# EAGLE library part OPENAG-CONNECTORS_BBB_SMD (library PFCEDU_V3)
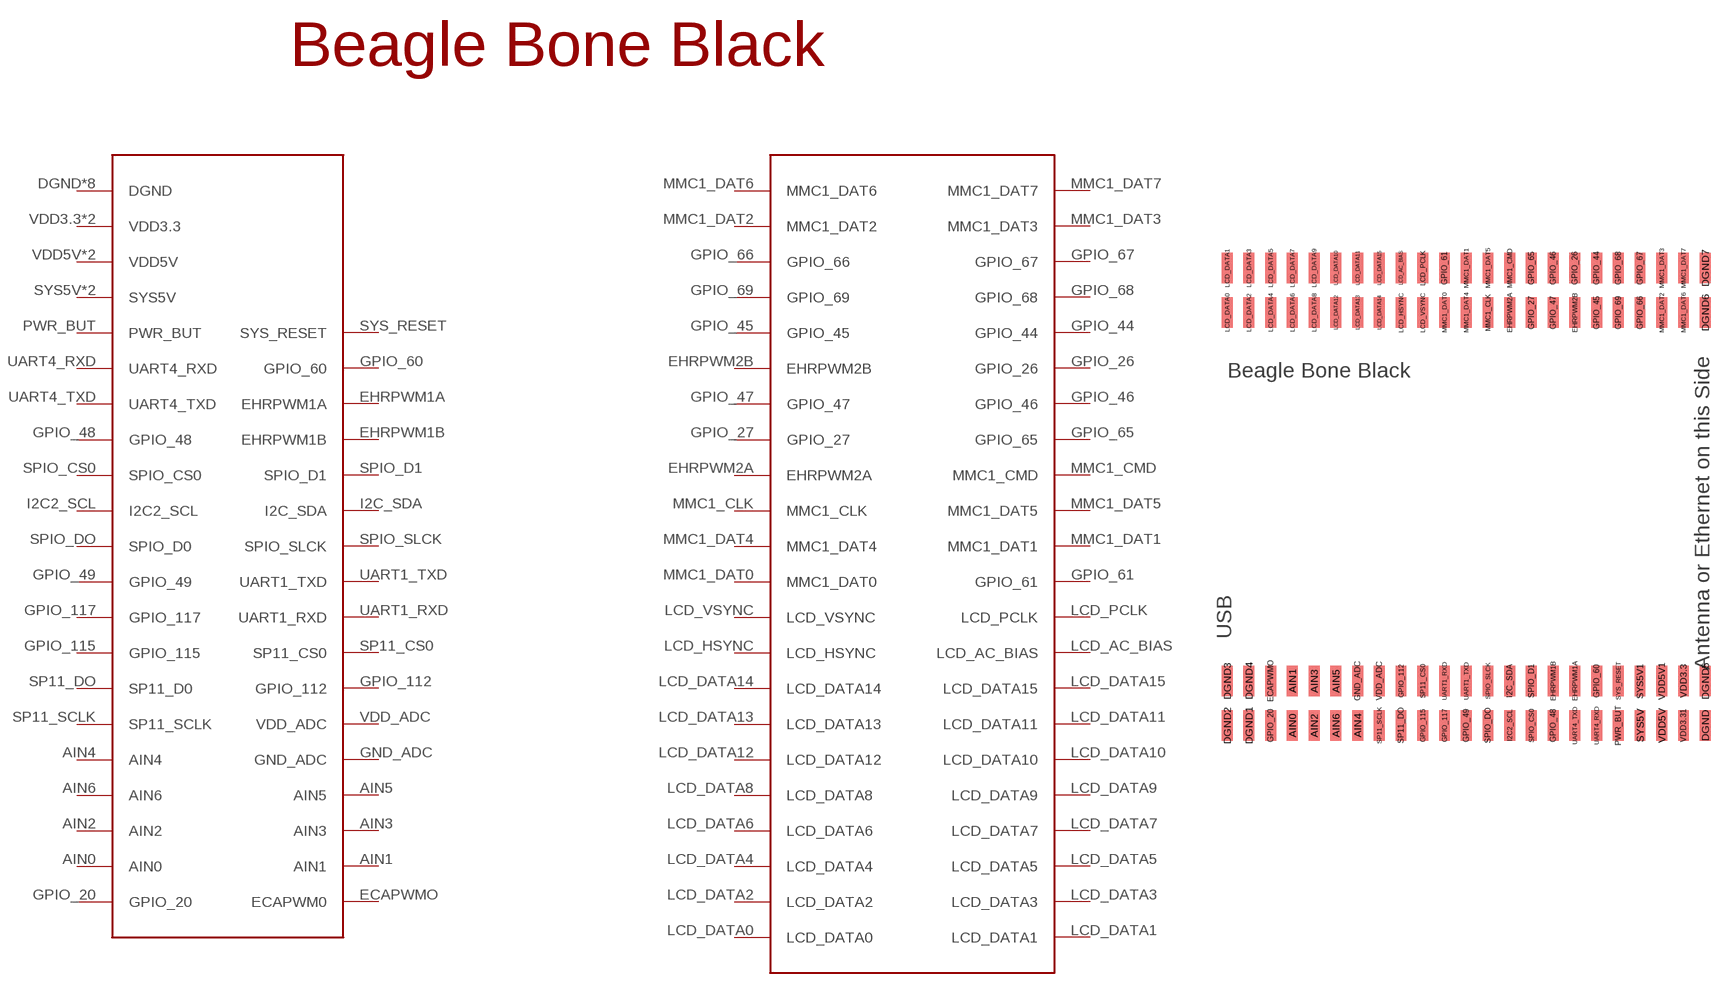
[diagram p3: symbol with the pads of OPENAG-CONNECTORS_23PINHEADERSMD; footprint OPENAG-CONNECTORS_23PINHEADERSMD]

Designator prefix -

## OPENAG-CONNECTORS_BBB_SMD  [OPENAG-CONNECTORS_23PINHEADERSMD]
AIN0  AIN0
AIN1  AIN1
AIN2  AIN2
AIN3  AIN3
AIN4  AIN4
AIN5  AIN5
AIN6  AIN6
DGND  DGND
DGND1  DGND
DGND2  DGND
DGND3  DGND
DGND4  DGND
DGND5  DGND
DGND6  DGND
DGND7  DGND
ECAPWMO  ECAPWM0
EHRPWM1A  EHRPWM1A
EHRPWM1B  EHRPWM1B
EHRPWM2A  EHRPWM2A
EHRPWM2B  EHRPWM2B
GND_ADC  GND_ADC
GPIO_20  GPIO_20
GPIO_26  GPIO_26
GPIO_27  GPIO_27
GPIO_44  GPIO_44
GPIO_45  GPIO_45
GPIO_46  GPIO_46
GPIO_47  GPIO_47
GPIO_48  GPIO_48
GPIO_49  GPIO_49
GPIO_60  GPIO_60
GPIO_61  GPIO_61
GPIO_65  GPIO_65
GPIO_66  GPIO_66
GPIO_67  GPIO_67
GPIO_68  GPIO_68
GPIO_69  GPIO_69
GPIO_112  GPIO_112
GPIO_115  GPIO_115
GPIO_117  GPIO_117
I2C2_SCL  I2C2_SCL
I2C_SDA  I2C_SDA
LCD_AC_BIAS  LCD_AC_BIAS
LCD_DATA0  LCD_DATA0
LCD_DATA1  LCD_DATA1
LCD_DATA2  LCD_DATA2
LCD_DATA3  LCD_DATA3
LCD_DATA4  LCD_DATA4
LCD_DATA5  LCD_DATA5
LCD_DATA6  LCD_DATA6
LCD_DATA7  LCD_DATA7
LCD_DATA8  LCD_DATA8
LCD_DATA9  LCD_DATA9
LCD_DATA10  LCD_DATA10
LCD_DATA11  LCD_DATA11
LCD_DATA12  LCD_DATA12
LCD_DATA13  LCD_DATA13
LCD_DATA14  LCD_DATA14
LCD_DATA15  LCD_DATA15
LCD_HSYNC  LCD_HSYNC
LCD_PCLK  LCD_PCLK
LCD_VSYNC  LCD_VSYNC
MMC1_CLK  MMC1_CLK
MMC1_CMD  MMC1_CMD
MMC1_DAT0  MMC1_DAT0
MMC1_DAT1  MMC1_DAT1
MMC1_DAT2  MMC1_DAT2
MMC1_DAT3  MMC1_DAT3
MMC1_DAT4  MMC1_DAT4
MMC1_DAT5  MMC1_DAT5
MMC1_DAT6  MMC1_DAT6
MMC1_DAT7  MMC1_DAT7
PWR_BUT  PWR_BUT
SP11_CS0  SP11_CS0
SP11_DO  SP11_D0
SP11_SCLK  SP11_SCLK
SPIO_CS0  SPIO_CS0
SPIO_D1  SPIO_D1
SPIO_DO  SPIO_D0
SPIO_SLCK  SPIO_SLCK
SYS5V  SYS5V
SYS5V1  SYS5V
SYS_RESET  SYS_RESET
UART1_RXD  UART1_RXD
UART1_TXD  UART1_TXD
UART4_RXD  UART4_RXD
UART4_TXD  UART4_TXD
VDD3.3  VDD3.3
VDD3.31  VDD3.3
VDD5V  VDD5V
VDD5V1  VDD5V
VDD_ADC  VDD_ADC

## Footprint OPENAG-CONNECTORS_23PINHEADERSMD (pad centres in mm)
smd 1.27 x 3.556: AIN0 7.62,0; AIN1 7.62,5.207; AIN2 10.16,0; AIN3 10.16,5.207; AIN4 15.24,0; AIN5 12.7,5.207; AIN6 12.7,0; DGND 55.88,0; DGND1 2.54,0; DGND2 0,0; DGND3 0,5.207; DGND4 2.54,5.207; DGND5 55.88,5.207; DGND6 55.88,48.26; DGND7 55.88,53.467; ECAPWMO 5.08,5.207; EHRPWM1A 40.64,5.207; EHRPWM1B 38.1,5.207; EHRPWM2A 33.02,48.26; EHRPWM2B 40.64,48.26; GND_ADC 15.24,5.207; GPIO_20 5.08,0; GPIO_26 40.64,53.467; GPIO_27 35.56,48.26; GPIO_44 43.18,53.467; GPIO_45 43.18,48.26; GPIO_46 38.1,53.467; GPIO_47 38.1,48.26; GPIO_48 38.1,0; GPIO_49 27.94,0; GPIO_60 43.18,5.207; GPIO_61 25.4,53.467; GPIO_65 35.56,53.467; GPIO_66 48.26,48.26; GPIO_67 48.26,53.467; GPIO_68 45.72,53.467; GPIO_69 45.72,48.26; GPIO_112 20.32,5.207; GPIO_115 22.86,0; GPIO_117 25.4,0; I2C2_SCL 33.02,0; I2C_SDA 33.02,5.207; LCD_AC_BIAS 20.32,53.467; LCD_DATA0 0,48.26; LCD_DATA1 0,53.467; LCD_DATA2 2.54,48.26; LCD_DATA3 2.54,53.467; LCD_DATA4 5.08,48.26; LCD_DATA5 5.08,53.467; LCD_DATA6 7.62,48.26; LCD_DATA7 7.62,53.467; LCD_DATA8 10.16,48.26; LCD_DATA9 10.16,53.467; LCD_DATA10 12.7,53.467; LCD_DATA11 15.24,53.467; LCD_DATA12 12.7,48.26; LCD_DATA13 15.24,48.26; LCD_DATA14 17.78,48.26; LCD_DATA15 17.78,53.467; LCD_HSYNC 20.32,48.26; LCD_PCLK 22.86,53.467; LCD_VSYNC 22.86,48.26; MMC1_CLK 30.48,48.26; MMC1_CMD 33.02,53.467; MMC1_DAT0 25.4,48.26; MMC1_DAT1 27.94,53.467; MMC1_DAT2 50.8,48.26; MMC1_DAT3 50.8,53.467; MMC1_DAT4 27.94,48.26; MMC1_DAT5 30.48,53.467; MMC1_DAT6 53.34,48.26; MMC1_DAT7 53.34,53.467; PWR_BUT 45.72,0; SP11_CS0 22.86,5.207; SP11_DO 20.32,0; SP11_SCLK 17.78,0; SPIO_CS0 35.56,0; SPIO_D1 35.56,5.207; SPIO_DO 30.48,0; SPIO_SLCK 30.48,5.207; SYS5V 48.26,0; SYS5V1 48.26,5.207; SYS_RESET 45.72,5.207; UART1_RXD 25.4,5.207; UART1_TXD 27.94,5.207; UART4_RXD 43.18,0; UART4_TXD 40.64,0; VDD3.3 53.34,5.207; VDD3.31 53.34,0; VDD5V 50.8,0; VDD5V1 50.8,5.207; VDD_ADC 17.78,5.207